# EAGLE library part PSU_NET-35C (library bao13)
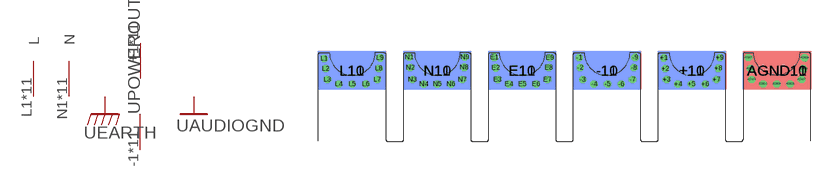
[diagram p5: symbol with the pads of PSU_NET35C_B; footprint PSU_NET35C_B]

Designator prefix -; gates POWEROUT=PWR+- AUDIOGND=GND L=L N=N EARTH=EARTH

## PSU_NET-35CB  [PSU_NET35C_B]
+1  POWEROUT:V+  pwr
+2  POWEROUT:V+  pwr
+3  POWEROUT:V+  pwr
+4  POWEROUT:V+  pwr
+5  POWEROUT:V+  pwr
+6  POWEROUT:V+  pwr
+7  POWEROUT:V+  pwr
+8  POWEROUT:V+  pwr
+9  POWEROUT:V+  pwr
+10  POWEROUT:V+  pwr
+11  POWEROUT:V+  pwr
-1  POWEROUT:V-  pwr
-2  POWEROUT:V-  pwr
-3  POWEROUT:V-  pwr
-4  POWEROUT:V-  pwr
-5  POWEROUT:V-  pwr
-6  POWEROUT:V-  pwr
-7  POWEROUT:V-  pwr
-8  POWEROUT:V-  pwr
-9  POWEROUT:V-  pwr
-10  POWEROUT:V-  pwr
-11  POWEROUT:V-  pwr
AGND1  AUDIOGND:GND  sup
AGND2  AUDIOGND:GND  sup
AGND3  AUDIOGND:GND  sup
AGND4  AUDIOGND:GND  sup
AGND5  AUDIOGND:GND  sup
AGND6  AUDIOGND:GND  sup
AGND7  AUDIOGND:GND  sup
AGND8  AUDIOGND:GND  sup
AGND9  AUDIOGND:GND  sup
AGND10  AUDIOGND:GND  sup
AGND11  AUDIOGND:GND  sup
E1  EARTH:GND  sup
E2  EARTH:GND  sup
E3  EARTH:GND  sup
E4  EARTH:GND  sup
E5  EARTH:GND  sup
E6  EARTH:GND  sup
E7  EARTH:GND  sup
E8  EARTH:GND  sup
E9  EARTH:GND  sup
E10  EARTH:GND  sup
E11  EARTH:GND  sup
L1  L:L  pwr
L2  L:L  pwr
L3  L:L  pwr
L4  L:L  pwr
L5  L:L  pwr
L6  L:L  pwr
L7  L:L  pwr
L8  L:L  pwr
L9  L:L  pwr
L10  L:L  pwr
L11  L:L  pwr
N1  N:N  pwr
N2  N:N  pwr
N3  N:N  pwr
N4  N:N  pwr
N5  N:N  pwr
N6  N:N  pwr
N7  N:N  pwr
N8  N:N  pwr
N9  N:N  pwr
N10  N:N  pwr
N11  N:N  pwr

## Footprint PSU_NET35C_B (pad centres in mm)
drill 0.3 octagon: +1 34.874,-0.61; +2 35.027,-1.829; +3 35.179,-3.048; +4 36.449,-3.556; +5 37.973,-3.556; +6 39.497,-3.556; +7 40.767,-3.048; +8 40.97,-1.778; +9 41.123,-0.584; -1 25.4,-0.584; -2 25.527,-1.702; -3 25.781,-3.048; -4 27.051,-3.556; -5 28.575,-3.556; -6 30.099,-3.556; -7 31.369,-3.048; -8 31.521,-1.702; -9 31.648,-0.559; AGND1 44.348,-0.584; AGND2 44.577,-1.829; AGND3 44.704,-3.048; AGND4 45.974,-3.556; AGND5 47.498,-3.556; AGND6 49.022,-3.556; AGND7 50.292,-3.048; AGND8 50.47,-1.854; AGND9 50.622,-0.61; E1 15.9,-0.559; E2 16.053,-1.727; E3 16.256,-3.048; E4 17.526,-3.556; E5 19.05,-3.556; E6 20.574,-3.556; E7 21.844,-3.048; E8 21.996,-1.702; E9 22.123,-0.584; L1 -3.15,-0.686; L2 -2.972,-1.829; L3 -2.794,-3.048; L4 -1.524,-3.556; L5 0,-3.556; L6 1.524,-3.556; L7 2.794,-3.048; L8 2.972,-1.803; L9 3.099,-0.61; N1 6.375,-0.533; N2 6.502,-1.702; N3 6.731,-3.048; N4 8.001,-3.556; N5 9.525,-3.556; N6 11.049,-3.556; N7 12.319,-3.048; N8 12.522,-1.676; N9 12.598,-0.533
smd 7.62 x 4.318: +10 38.024,-2.032; -10 28.524,-2.032; AGND11 47.549,-2.032; E11 19.025,-2.032; L11 -0.025,-2.032; N10 9.525,-2.032
smd 7.62 x 4.318 bottom: +11 37.998,-2.032; -11 28.499,-2.032; AGND10 47.523,-2.032; E10 18.999,-2.032; L10 -0.051,-2.032; N11 9.5,-2.032